# EAGLE library part ETX-X3-ANALOG (library etx-board)
VGA, LCD, Video, COM1, COM2, LPT/Floppy, IrDA, Mouse, Keyboard PARALLEL INTERFACE PINOUT, FLOPPY SUPPORT MODE PINOUT ETX Board Connector 100 Pos. Source: www.kontron.com/techlib/whitepapers/etx_spec.pdf
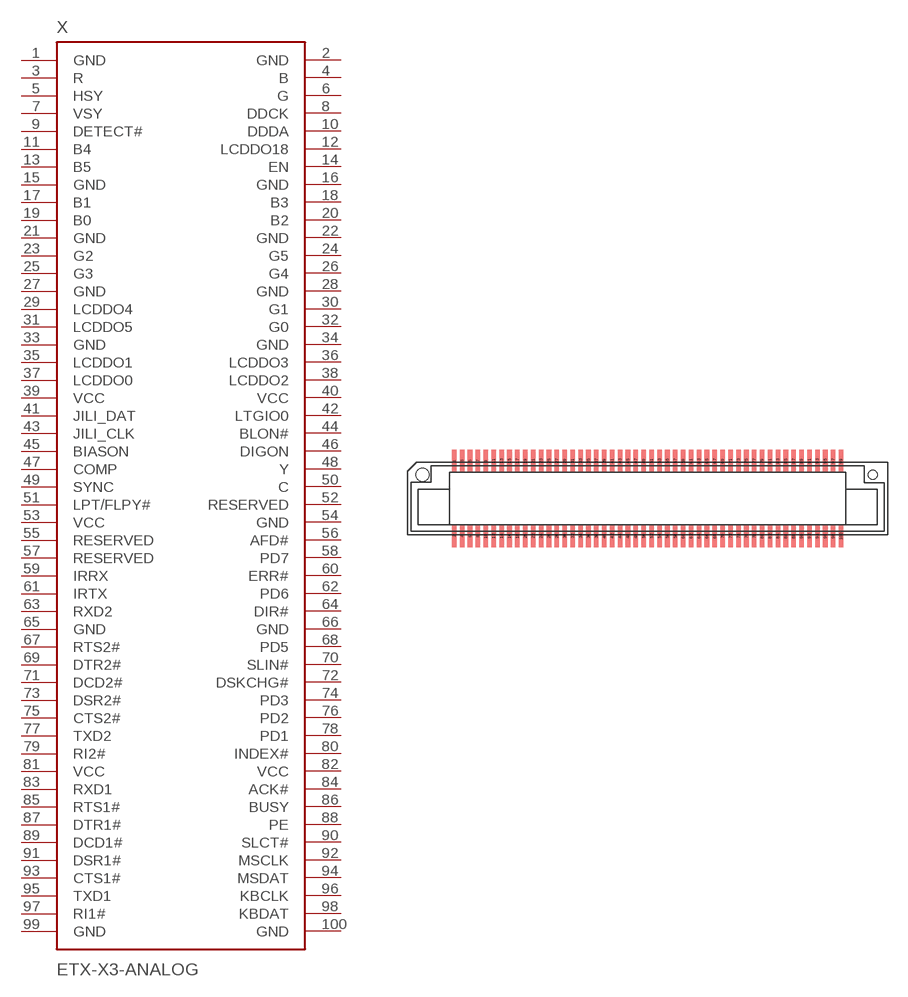
[diagram p2: symbol with the pads of FX8-100S-SV; footprint FX8-100S-SV]

Designator prefix X

## ETX-X3-ANALOG  [FX8-100S-SV]
1  GND  pwr
2  GND  pwr
3  R
4  B
5  HSY
6  G
7  VSY
8  DDCK
9  DETECT#
10  DDDA
11  B4
12  LCDDO18
13  B5
14  EN
15  GND  pwr
16  GND  pwr
17  B1
18  B3
19  B0
20  B2
21  GND  pwr
22  GND  pwr
23  G2
24  G5
25  G3
26  G4
27  GND  pwr
28  GND  pwr
29  LCDDO4
30  G1
31  LCDDO5
32  G0
33  GND  pwr
34  GND  pwr
35  LCDDO1
36  LCDDO3
37  LCDDO0
38  LCDDO2
39  VCC  pwr
40  VCC  pwr
41  JILI_DAT
42  LTGIO0
43  JILI_CLK
44  BLON#
45  BIASON
46  DIGON
47  COMP
48  Y
49  SYNC
50  C
51  LPT/FLPY#
52  RESERVED
53  VCC  pwr
54  GND  pwr
55  RESERVED
56  AFD#
57  RESERVED
58  PD7
59  IRRX
60  ERR#
61  IRTX
62  PD6
63  RXD2
64  DIR#
65  GND  pwr
66  GND  pwr
67  RTS2#
68  PD5
69  DTR2#
70  SLIN#
71  DCD2#
72  DSKCHG#
73  DSR2#
74  PD3
75  CTS2#
76  PD2
77  TXD2
78  PD1
79  RI2#
80  INDEX#
81  VCC  pwr
82  VCC  pwr
83  RXD1
84  ACK#
85  RTS1#
86  BUSY
87  DTR1#
88  PE
89  DCD1#
90  SLCT#
91  DSR1#
92  MSCLK
93  CTS1#
94  MSDAT
95  TXD1
96  KBCLK
97  RI1#
98  KBDAT
99  GND  pwr
100  GND  pwr

## Footprint FX8-100S-SV (pad centres in mm)
HIROSE - ETX Board Connector 100 Pos. Source: www.hirose.co.jp/cataloge_hp/e57800016.pdf www.kontron.com/techlib/whitepapers/etx_spec.pdf
smd 0.35 x 1.7: 1 -14.7,2.85; 2 -14.7,-2.85; 3 -14.1,2.85; 4 -14.1,-2.85; 5 -13.5,2.85; 6 -13.5,-2.85; 7 -12.9,2.85; 8 -12.9,-2.85; 9 -12.3,2.85; 10 -12.3,-2.85; 11 -11.7,2.85; 12 -11.7,-2.85; 13 -11.1,2.85; 14 -11.1,-2.85; 15 -10.5,2.85; 16 -10.5,-2.85; 17 -9.9,2.85; 18 -9.9,-2.85; 19 -9.3,2.85; 20 -9.3,-2.85; 21 -8.7,2.85; 22 -8.7,-2.85; 23 -8.1,2.85; 24 -8.1,-2.85; 25 -7.5,2.85; 26 -7.5,-2.85; 27 -6.9,2.85; 28 -6.9,-2.85; 29 -6.3,2.85; 30 -6.3,-2.85; 31 -5.7,2.85; 32 -5.7,-2.85; 33 -5.1,2.85; 34 -5.1,-2.85; 35 -4.5,2.85; 36 -4.5,-2.85; 37 -3.9,2.85; 38 -3.9,-2.85; 39 -3.3,2.85; 40 -3.3,-2.85; 41 -2.7,2.85; 42 -2.7,-2.85; 43 -2.1,2.85; 44 -2.1,-2.85; 45 -1.5,2.85; 46 -1.5,-2.85; 47 -0.9,2.85; 48 -0.9,-2.85; 49 -0.3,2.85; 50 -0.3,-2.85; 51 0.3,2.85; 52 0.3,-2.85; 53 0.9,2.85; 54 0.9,-2.85; 55 1.5,2.85; 56 1.5,-2.85; 57 2.1,2.85; 58 2.1,-2.85; 59 2.7,2.85; 60 2.7,-2.85; 61 3.3,2.85; 62 3.3,-2.85; 63 3.9,2.85; 64 3.9,-2.85; 65 4.5,2.85; 66 4.5,-2.85; 67 5.1,2.85; 68 5.1,-2.85; 69 5.7,2.85; 70 5.7,-2.85; 71 6.3,2.85; 72 6.3,-2.85; 73 6.9,2.85; 74 6.9,-2.85; 75 7.5,2.85; 76 7.5,-2.85; 77 8.1,2.85; 78 8.1,-2.85; 79 8.7,2.85; 80 8.7,-2.85; 81 9.3,2.85; 82 9.3,-2.85; 83 9.9,2.85; 84 9.9,-2.85; 85 10.5,2.85; 86 10.5,-2.85; 87 11.1,2.85; 88 11.1,-2.85; 89 11.7,2.85; 90 11.7,-2.85; 91 12.3,2.85; 92 12.3,-2.85; 93 12.9,2.85; 94 12.9,-2.85; 95 13.5,2.85; 96 13.5,-2.85; 97 14.1,2.85; 98 14.1,-2.85; 99 14.7,2.85; 100 14.7,-2.85
hole 1 at -17.1,1.8
hole 0.7 at 17.1,1.8